# Altium schematic symbol library 0603元件.SCHLIB: 4 symbols
Pins are listed as number, name and electrical type; pins without a type are passive.

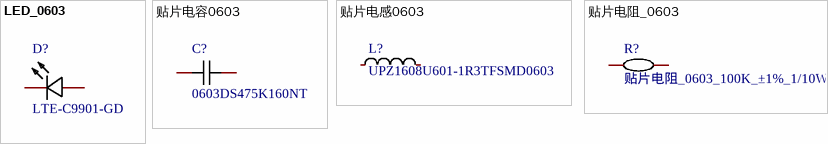
[diagram p0: symbols LED_0603 to 贴片电阻_0603]

## LED_0603
designator D?, comment LTE-C9901-GD
Add into BOM: yes; Symbol: LTE-C9901-GD; Device: LTE-C9901-GD; LCSC Part Name: LTE-C9901-GD; Supplier Part: C9900001446; Manufacturer Part: LTE-C9901-GD; Supplier Footprint: LED0603; JLCPCB Part Class: 扩展库; Supplier: LCSC; Convert to PCB: yes; Name: LTE-C9901-GD
footprint LED0603-RD
pins: 1 -, 2 +

## 贴片电容0603
designator C?, comment 0603DS475K160NT
Manufacturer: FH(风华); Add into BOM: yes; Symbol: 0603DS475K160NT; Device: 0603DS475K160NT; LCSC Part Name: 贴片电容; Supplier Part: C18213190; Manufacturer Part: 0603DS475K160NT; Supplier Footprint: 0603; Datasheet: https://atta.szlcsc.com/upload/public/pdf/source/20220211/3FDF6092789FC56E23A16E03DC7301F9.pdf; Supplier: LCSC; Convert to PCB: yes; Name: 0603DS475K160NT
footprint PCBComponent_1
pins: 1, 2

## 贴片电感0603
designator L?, comment UPZ1608U601-1R3TFSMD0603
Add into BOM: yes; Symbol: UPZ1608U601-1R3TFSMD0603; Device: UPZ1608U601-1R3TFSMD0603; LCSC Part Name: UPZ1608U601-1R3TFSMD0603; Supplier Part: C9900089406; Manufacturer Part: UPZ1608U601-1R3TFSMD0603; Supplier Footprint: L0603; JLCPCB Part Class: 扩展库; Supplier: LCSC; Convert to PCB: yes; Name: UPZ1608U601-1R3TFSMD0603
footprint L0603
pins: 1, 2

## 贴片电阻_0603
designator R?, comment 贴片电阻_0603_100K_±1%_1/10W
Add into BOM: yes; Symbol: 贴片电阻_0603_100K_±1%_1/10W; Device: 贴片电阻_0603_100K_±1%_1/10W; LCSC Part Name: 贴片电阻_0603_100K_±1%_1/10W; Supplier Part: C9900009623; Manufacturer Part: 贴片电阻_0603_100K_±1%_1/10W; Supplier Footprint: R0603; JLCPCB Part Class: 扩展库; Supplier: LCSC; Convert to PCB: yes; Name: 贴片电阻_0603_100K_±1%_1/10W
footprint PCBComponent_1
pins: 1, 2